# EAGLE library part HEADER-EZ430-PROG (library ff_conn)
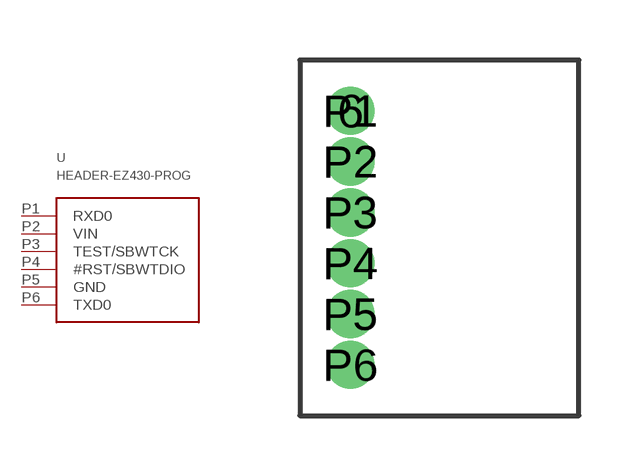
[diagram p0: symbol with the pads of HEADER-P6-050; footprint HEADER-P6-050]

Designator prefix -

## HEADER-EZ430-PROG  [HEADER-P6-050]
P1  RXD0
P2  VIN
P3  TEST/SBWTCK
P4  #RST/SBWTDIO
P5  GND
P6  TXD0

## Footprint HEADER-P6-050 (pad centres in mm)
6P Connector package used to interface with the EZ430 Programming Dongle.
drill 0.7 pad 1.016 round: 6 0,6.35; P1 0,6.35; P2 0,5.08; P3 0,3.81; P4 0,2.54; P5 0,1.27; P6 0,0